# Altium schematic symbol library TH Transistors.SchLib: 2 symbols
Pins are listed as number, name and electrical type; pins without a type are passive.

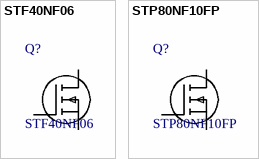
[diagram p0: symbols STF40NF06 to STP80NF10FP]

## STF40NF06
designator Q?
N CHANNEL MOSFET; Supplier 1: Digi-Key; Supplier Part Number 1: 497-4343-5-ND
footprint TO220V-GDS
pins: D, G, S

## STP80NF10FP
designator Q?
N CHANNEL MOSFET; Supplier 1: Digi-Key; Supplier Part Number 1: 497-5897-5-ND
footprint TO220V-GDS
pins: D, G, S